# Altium footprint library TFP09-2-12B.PcbLib: 1 footprints
Each footprint in its own frame and in the unit in brackets; x right, y up, seen from the top. Pads: shape width x height; smd on the part's side, far side on the other; paste and mask are expansions set on the pad; w line width, h text height; cw(c..) or ccw(c..) is an arc to the next point about the centre after c.
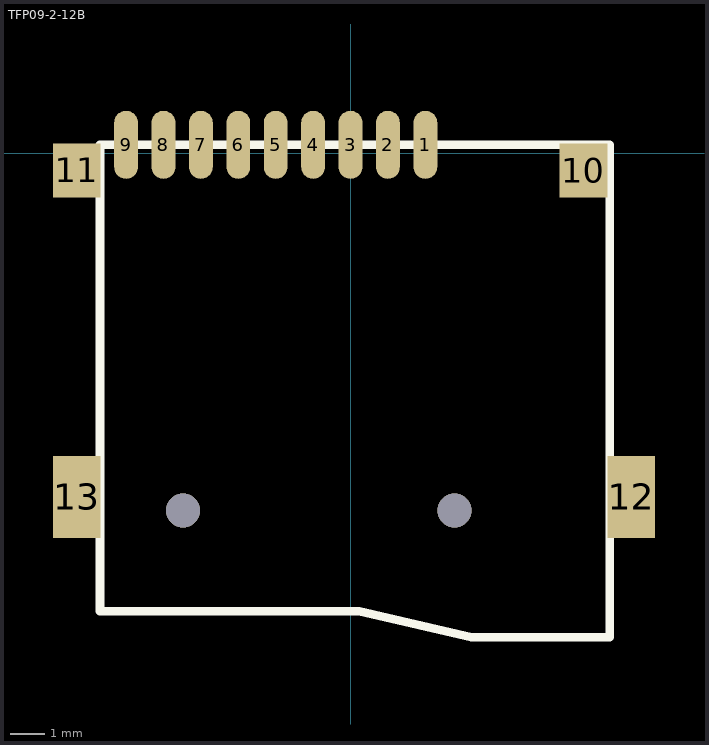
[diagram p0: the footprint, top view; thin cyan lines are the x and y axes]

## TFP09-2-12B [mm]
pads (13):
  oval 0.7x2 smd: 1(2.2,0.254) 2(1.1,0.254) 3(0,0.254) 4(-1.1,0.254) 5(-2.2,0.254) 6(-3.3,0.254) 7(-4.4,0.254) 8(-5.5,0.254) 9(-6.6,0.254)
  rect 1.4x1.6 smd: 10(6.85,-0.5) 11(-8.054,-0.5)
  rect 1.4x2.4 smd: 12(8.258,-10.1) 13(-8.054,-10.1)
via 3.05,-10.5 diameter 1 hole 1
via -4.93,-10.5 diameter 1 hole 1
Top Overlay:
  lines w0.254: -7.366,-13.462 -7.366,0.254 7.62,0.254 7.62,-14.224 3.556,-14.224 0.254,-13.462 -7.366,-13.462